# EAGLE library part STM32L432 (library CougsInSpace)
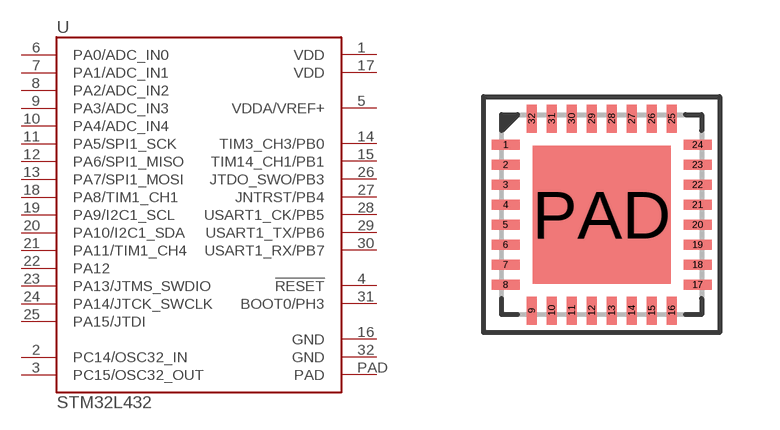
[diagram p29: symbol with the pads of QFN32-5X5; footprint QFN32-5X5]

Designator prefix U

## STM32L432  [QFN32-5X5]
1  VDD  pwr
2  PC14/OSC32_IN
3  PC15/OSC32_OUT
4  !RESET  in
5  VDDA/VREF+  in
6  PA0/ADC_IN0
7  PA1/ADC_IN1
8  PA2/ADC_IN2
9  PA3/ADC_IN3
10  PA4/ADC_IN4
11  PA5/SPI1_SCK
12  PA6/SPI1_MISO
13  PA7/SPI1_MOSI
14  TIM3_CH3/PB0
15  TIM14_CH1/PB1
16  GND  pwr
17  VDD  pwr
18  PA8/TIM1_CH1
19  PA9/I2C1_SCL
20  PA10/I2C1_SDA
21  PA11/TIM1_CH4
22  PA12
23  PA13/JTMS_SWDIO
24  PA14/JTCK_SWCLK
25  PA15/JTDI
26  JTDO_SWO/PB3
27  JNTRST/PB4
28  USART1_CK/PB5
29  USART1_TX/PB6
30  USART1_RX/PB7
31  BOOT0/PH3
32  GND  pwr
PAD  PAD  pwr

## Footprint QFN32-5X5 (pad centres in mm)
smd 0.7 x 0.25: 1 -2.4,1.75; 2 -2.4,1.25; 3 -2.4,0.75; 4 -2.4,0.25; 5 -2.4,-0.25; 6 -2.4,-0.75; 7 -2.4,-1.25; 8 -2.4,-1.75; 17 2.4,-1.75; 18 2.4,-1.25; 19 2.4,-0.75; 20 2.4,-0.25; 21 2.4,0.25; 22 2.4,0.75; 23 2.4,1.25; 24 2.4,1.75
smd 0.25 x 0.7: 9 -1.75,-2.4; 10 -1.25,-2.4; 11 -0.75,-2.4; 12 -0.25,-2.4; 13 0.25,-2.4; 14 0.75,-2.4; 15 1.25,-2.4; 16 1.75,-2.4; 25 1.75,2.4; 26 1.25,2.4; 27 0.75,2.4; 28 0.25,2.4; 29 -0.25,2.4; 30 -0.75,2.4; 31 -1.25,2.4; 32 -1.75,2.4
smd 3.45 x 3.45: PAD 0,0